# Altium schematic symbol library headers.SchLib: 3 symbols
Pins are listed as number, name and electrical type; pins without a type are passive.

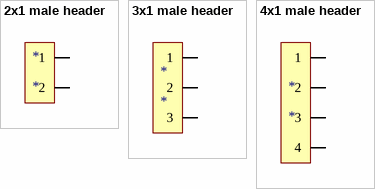
[diagram p0: symbols 2x1 male header to 4x1 male header]

## 2x1 male header
designator *
2x1 male header
footprint 2x1 .050” [1.27 mm] Male Headers (.050” [1.27 mm] Contact Centers, Male Headers)
footprint 2x1 bigger
pins: 1, 2

## 3x1 male header
designator *
x1 male header
footprint 3X1 .050” [1.27 mm] Male Headers (.050” [1.27 mm] Contact Centers, Male Headers)
pins: 1, 2, 3

## 4x1 male header
designator *
4x1 male header
footprint 4x1 .050” [1.27 mm] Male Headers (.050” [1.27 mm] Contact Centers, Male Headers)
footprint 4x1 bigger
pins: 1, 2, 3, 4